# Altium schematic symbol library 691363310004.SchLib: 1 symbol
Pins are listed as number, name and electrical type; pins without a type are passive.

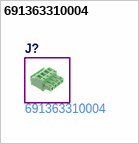
[diagram p0: symbol 691363310004]

## 691363310004
designator J?
Horizontal Plug wth hook on wire Side; Manufacturer: Wurth Electronics; Manufacturer Part Number: 691363110003; Pitch: 3.81mm; __ORIG_LIFECYCLESTATEGUID__: 706004B5-C76E-482E-903B-BA0E4FAE086A; Orientation: Horizontal; Number of Rows: 1; Part Number: 691363310004; Number of Pins: 3; Max Operating Temperature: 105°C; Mount: Cable; Series: WR-TBL 3633; Status: MK; HelpURL: https://www.we-online.com/catalog/datasheet/691363310004.pdf; Gender: Plug; RoHS: Compliant; Manufacturer Part Number: 691363310004; Component Type: Screw Terminals
footprint 691363310004